# EAGLE library part OPENAG-CONNECTORS_ATLAS-STAMP (library PFCEDU_V3)
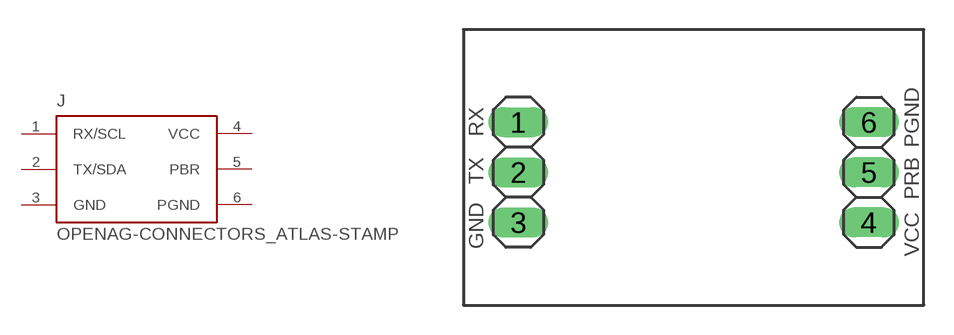
[diagram p2: symbol with the pads of OPENAG-CONNECTORS_ATLAS-STAMP; footprint OPENAG-CONNECTORS_ATLAS-STAMP]

Designator prefix J

## OPENAG-CONNECTORS_ATLAS-STAMP (MPN: N/A; VALUE: ATLAS-STAMP)  [OPENAG-CONNECTORS_ATLAS-STAMP]
1  RX/SCL
2  TX/SDA
3  GND  pwr
4  VCC  pwr
5  PBR
6  PGND  pwr

## Footprint OPENAG-CONNECTORS_ATLAS-STAMP (pad centres in mm)
PIN HEADER
drill 1.016 long: 1 -8.89,2.54; 2 -8.89,0; 3 -8.89,-2.54; 4 8.89,-2.54; 5 8.89,0; 6 8.89,2.54